# Altium schematic symbol library EE3102_PCB_Proj_Lib.SchLib: 3 symbols
Pins are listed as number, name and electrical type; pins without a type are passive.

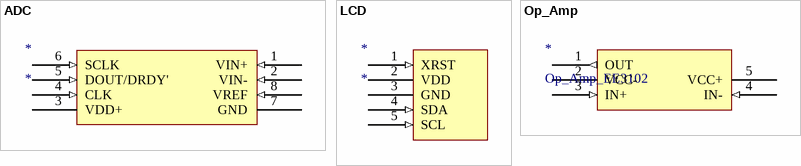
[diagram p0: symbols ADC to Op_Amp]

## ADC
designator *
footprint ADC
pins: 1 VIN+ (in), 2 VIN- (in), 3 VDD+ (power), 4 CLK (in), 5 DOUT/DRDY' (in), 6 SCLK (in), 7 GND (power), 8 VREF (in)

## LCD
designator *
footprint LCD
pins: 1 XRST (in), 2 VDD (power), 3 GND (power), 4 SDA (in), 5 SCL (in)

## Op_Amp
designator *, comment Op_Amp_EE3102
footprint Op_Amp
pins: 1 OUT (out), 2 VCC- (power), 3 IN+ (in), 4 IN- (in), 5 VCC+ (power)